# EAGLE library part ZL38063 (library FaBo-Sound)
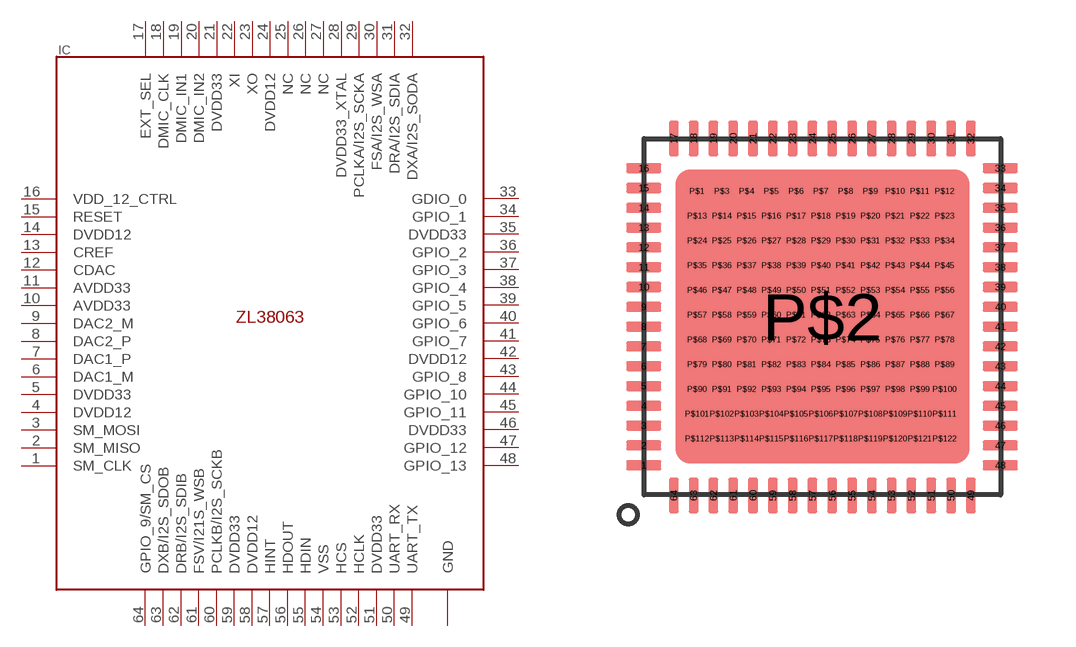
[diagram p0: symbol with the pads of ZL38063; footprint ZL38063]

Designator prefix IC

## ZL38063  [ZL38063]
1  SM_CLK
2  SM_MISO
3  SM_MOSI
4  DVDD12
5  DVDD33
6  DAC1_M
7  DAC1_P
8  DAC2_P
9  DAC2_M
10  AVDD33
11  AVDD33
12  CDAC
13  CREF
14  DVDD12
15  RESET
16  VDD_12_CTRL
17  EXT_SEL
18  DMIC_CLK
19  DMIC_IN1
20  DMIC_IN2
21  DVDD33
22  XI
23  XO
24  DVDD12
25  NC
26  NC
27  NC
28  DVDD33_XTAL
29  PCLKA/I2S_SCKA
30  FSA/I2S_WSA
31  DRA/I2S_SDIA
32  DXA/I2S_SODA
33  GDIO_0
34  GPIO_1
35  DVDD33
36  GPIO_2
37  GPIO_3
38  GPIO_4
39  GPIO_5
40  GPIO_6
41  GPIO_7
42  DVDD12
43  GPIO_8
44  GPIO_10
45  GPIO_11
46  DVDD33
47  GPIO_12
48  GPIO_13
49  UART_TX
50  UART_RX
51  DVDD33
52  HCLK
53  HCS
54  VSS
55  HDIN
56  HDOUT
57  HINT
58  DVDD12
59  DVDD33
60  PCLKB/I2S_SCKB
61  FSV/I21S_WSB
62  DRB/I2S_SDIB
63  DXB/I2S_SDOB
64  GPIO_9/SM_CS

## Footprint ZL38063 (pad centres in mm)
smd 0.889 x 0.254: 1 -4.51,-3.75; 2 -4.51,-3.25; 3 -4.51,-2.75; 4 -4.51,-2.25; 5 -4.51,-1.75; 6 -4.51,-1.25; 7 -4.51,-0.75; 8 -4.51,-0.25; 9 -4.51,0.25; 10 -4.51,0.75; 11 -4.51,1.25; 12 -4.51,1.75; 13 -4.51,2.25; 14 -4.51,2.75; 15 -4.51,3.25; 16 -4.51,3.75; 33 4.494,3.75; 34 4.494,3.25; 35 4.494,2.75; 36 4.494,2.25; 37 4.494,1.75; 38 4.494,1.25; 39 4.494,0.75; 40 4.494,0.25; 41 4.494,-0.25; 42 4.494,-0.75; 43 4.494,-1.25; 44 4.494,-1.75; 45 4.494,-2.25; 46 4.494,-2.75; 47 4.494,-3.25; 48 4.494,-3.75
smd 0.254 x 0.889: 17 -3.75,4.5; 18 -3.25,4.5; 19 -2.75,4.5; 20 -2.25,4.5; 21 -1.75,4.5; 22 -1.25,4.5; 23 -0.75,4.5; 24 -0.25,4.5; 25 0.25,4.5; 26 0.75,4.5; 27 1.25,4.5; 28 1.75,4.5; 29 2.25,4.5; 30 2.75,4.5; 31 3.25,4.5; 32 3.75,4.5; 49 3.75,-4.514; 50 3.25,-4.514; 51 2.75,-4.514; 52 2.25,-4.514; 53 1.75,-4.514; 54 1.25,-4.514; 55 0.75,-4.514; 56 0.25,-4.514; 57 -0.25,-4.514; 58 -0.75,-4.514; 59 -1.25,-4.514; 60 -1.75,-4.514; 61 -2.25,-4.514; 62 -2.75,-4.514; 63 -3.25,-4.514; 64 -3.75,-4.514
smd 0.33 x 0.33: P$1 -3.165,3.165; P$3 -2.54,3.165; P$4 -1.915,3.165; P$5 -1.29,3.165; P$6 -0.665,3.165; P$7 -0.04,3.165; P$8 0.585,3.165; P$9 1.21,3.165; P$10 1.835,3.165; P$11 2.46,3.165; P$12 3.085,3.165; P$13 -3.165,2.54; P$14 -2.54,2.54; P$15 -1.915,2.54; P$16 -1.29,2.54; P$17 -0.665,2.54; P$18 -0.04,2.54; P$19 0.585,2.54; P$20 1.21,2.54; P$21 1.835,2.54; P$22 2.46,2.54; P$23 3.085,2.54; P$24 -3.165,1.915; P$25 -2.54,1.915; P$26 -1.915,1.915; P$27 -1.29,1.915; P$28 -0.665,1.915; P$29 -0.04,1.915; P$30 0.585,1.915; P$31 1.21,1.915; P$32 1.835,1.915; P$33 2.46,1.915; P$34 3.085,1.915; P$35 -3.165,1.29; P$36 -2.54,1.29; P$37 -1.915,1.29; P$38 -1.29,1.29; P$39 -0.665,1.29; P$40 -0.04,1.29; P$41 0.585,1.29; P$42 1.21,1.29; P$43 1.835,1.29; P$44 2.46,1.29; P$45 3.085,1.29; P$46 -3.165,0.665; P$47 -2.54,0.665; P$48 -1.915,0.665; P$49 -1.29,0.665; P$50 -0.665,0.665; P$51 -0.04,0.665; P$52 0.585,0.665; P$53 1.21,0.665; P$54 1.835,0.665; P$55 2.46,0.665; P$56 3.085,0.665; P$57 -3.165,0.04; P$58 -2.54,0.04; P$59 -1.915,0.04; P$60 -1.29,0.04; P$61 -0.665,0.04; P$62 -0.04,0.04; P$63 0.585,0.04; P$64 1.21,0.04; P$65 1.835,0.04; P$66 2.46,0.04; P$67 3.085,0.04; P$68 -3.165,-0.585; P$69 -2.54,-0.585; P$70 -1.915,-0.585; P$71 -1.29,-0.585; P$72 -0.665,-0.585; P$73 -0.04,-0.585; P$74 0.585,-0.585; P$75 1.21,-0.585; P$76 1.835,-0.585; P$77 2.46,-0.585; P$78 3.085,-0.585; P$79 -3.165,-1.21; P$80 -2.54,-1.21; P$81 -1.915,-1.21; P$82 -1.29,-1.21; P$83 -0.665,-1.21; P$84 -0.04,-1.21; P$85 0.585,-1.21; P$86 1.21,-1.21; P$87 1.835,-1.21; P$88 2.46,-1.21; P$89 3.085,-1.21; P$90 -3.165,-1.835; P$91 -2.54,-1.835; P$92 -1.915,-1.835; P$93 -1.29,-1.835; P$94 -0.665,-1.835; P$95 -0.04,-1.835; P$96 0.585,-1.835; P$97 1.21,-1.835; P$98 1.835,-1.835; P$99 2.46,-1.835; P$100 3.085,-1.835; P$101 -3.165,-2.46; P$102 -2.54,-2.46; P$103 -1.915,-2.46; P$104 -1.29,-2.46; P$105 -0.665,-2.46; P$106 -0.04,-2.46; P$107 0.585,-2.46; P$108 1.21,-2.46; P$109 1.835,-2.46; P$110 2.46,-2.46; P$111 3.085,-2.46; P$112 -3.165,-3.085; P$113 -2.54,-3.085; P$114 -1.915,-3.085; P$115 -1.29,-3.085; P$116 -0.665,-3.085; P$117 -0.04,-3.085; P$118 0.585,-3.085; P$119 1.21,-3.085; P$120 1.835,-3.085; P$121 2.46,-3.085; P$122 3.085,-3.085
smd 7.42 x 7.42: P$2 0,0